# Altium footprint library TPS7A0233P.PcbLib: 1 footprints
Each footprint in its own frame and in the unit in brackets; x right, y up, seen from the top. Pads: shape width x height; smd on the part's side, far side on the other; paste and mask are expansions set on the pad; w line width, h text height; cw(c..) or ccw(c..) is an arc to the next point about the centre after c.
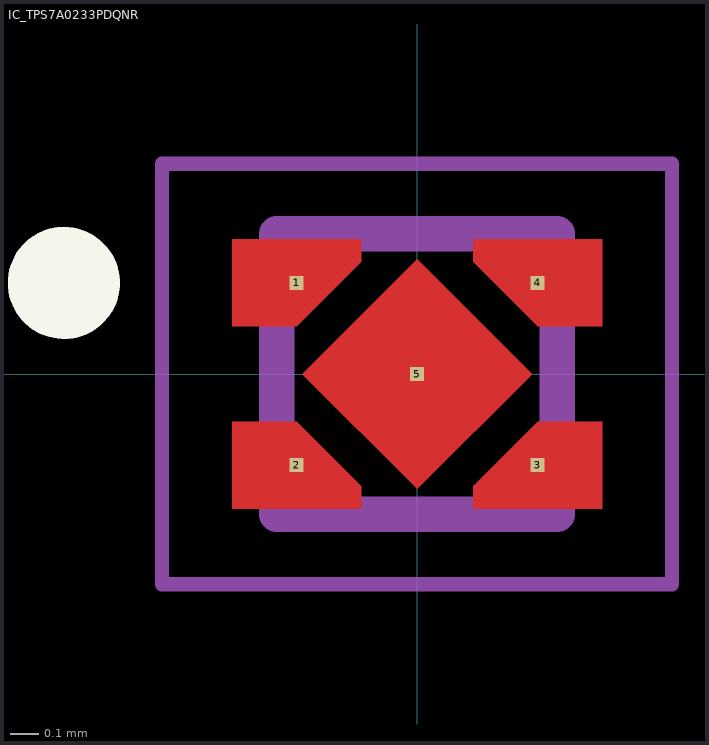
[diagram p0: the footprint, top view; thin cyan lines are the x and y axes]

## IC_TPS7A0233PDQNR [mm]
height 0.4
pads (5):
  rect 0.05x0.05 smd paste-1 mask+0: 1(-0.43,0.325) 2(-0.43,-0.325) 3(0.43,-0.325) 4(0.43,0.325) 5(0,0)
Top Layer:
  region: -0.2,0.4 -0.43,0.17 -0.66,0.17 -0.66,0.48 -0.2,0.48
  region: 0.66,-0.48 0.2,-0.48 0.2,-0.4 0.43,-0.17 0.66,-0.17
  region: 0.66,0.17 0.43,0.17 0.2,0.4 0.2,0.48 0.66,0.48
  region: -0.2,-0.4 -0.2,-0.48 -0.66,-0.48 -0.66,-0.17 -0.43,-0.17
  region: 0.41,0 0,-0.41 -0.41,0 0,0.41
Top Overlay:
  circle w0.2: c-1.26,0.325 r0.1
Top Paste:
  region: 0.65,0.22 0.43,0.22 0.25,0.4 0.25,0.43 0.65,0.43
  region: 0.65,-0.43 0.25,-0.43 0.25,-0.4 0.43,-0.22 0.65,-0.22
  region: -0.25,0.4 -0.43,0.22 -0.65,0.22 -0.65,0.43 -0.25,0.43
  region: -0.25,-0.4 -0.25,-0.43 -0.65,-0.43 -0.65,-0.22 -0.43,-0.22
  region: 0.318,0 0,-0.318 -0.318,0 0,0.318
Top Solder:
  region: -0.25,0.4 -0.43,0.22 -0.61,0.22 -0.61,0.43 -0.25,0.43
  region: 0.61,-0.43 0.25,-0.43 0.25,-0.4 0.43,-0.22 0.61,-0.22
  region: 0.61,0.22 0.43,0.22 0.25,0.4 0.25,0.43 0.61,0.43
  region: -0.25,-0.4 -0.25,-0.43 -0.61,-0.43 -0.61,-0.22 -0.43,-0.22
  region: 0.339,0 0,-0.339 -0.339,0 0,0.339
Mechanical 13:
  circle w0.2: c-1.26,0.325 r0.1
  lines w0.127: -0.5,-0.5 0.5,-0.5 0.5,0.5 -0.5,0.5 -0.5,-0.5
Mechanical 15:
  lines w0.05: -0.91,-0.75 0.91,-0.75 0.91,0.75 -0.91,0.75 -0.91,-0.75
3D body "step_temp.STEP": height 0.4, standoff 0, extent -0.5,-0.5 0.5,0.5